# EAGLE library part F-2X08- (library con-headers-jp)
FEMALE HEADER
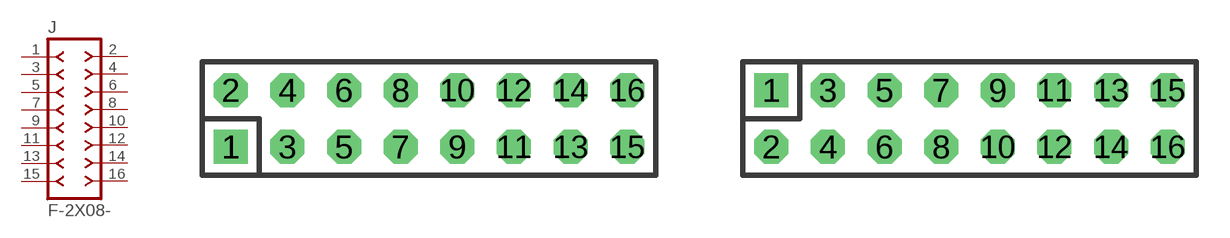
[diagram p37: symbol with the pads of DIL-100-2X08; footprints DIL-100-2X08, DIL-100-2X08_M]

Designator prefix J

## F-2X08-DIL-100  [DIL-100-2X08]
1  1  pas
2  2  pas
3  3  pas
4  4  pas
5  5  pas
6  6  pas
7  7  pas
8  8  pas
9  9  pas
10  10  pas
11  11  pas
12  12  pas
13  13  pas
14  14  pas
15  15  pas
16  16  pas

## F-2X08-DIL-100_M  [DIL-100-2X08_M]
Pads as for DIL-100-2X08

## F-2X08-DIL-2MM  [DIL-2MM-2X08]
Pads as for DIL-100-2X08

## F-2X08-DIL-2MM_M  [DIL-2MM-2X08_M]
Pads as for DIL-100-2X08

## F-2X08-71991  [71991-16]
Pads as for DIL-100-2X08

## F-2X08-79107  [79107-16]
Pads as for DIL-100-2X08

## F-2X08-79107_M  [79107-16_M]
Pads as for DIL-100-2X08

## Footprint DIL-100-2X08 (pad centres in mm)
PIN HEADER - 0.1"
drill 1.016 square: 1 -8.89,-1.27
drill 1.016 octagon: 2 -8.89,1.27; 3 -6.35,-1.27; 4 -6.35,1.27; 5 -3.81,-1.27; 6 -3.81,1.27; 7 -1.27,-1.27; 8 -1.27,1.27; 9 1.27,-1.27; 10 1.27,1.27; 11 3.81,-1.27; 12 3.81,1.27; 13 6.35,-1.27; 14 6.35,1.27; 15 8.89,-1.27; 16 8.89,1.27

## Footprint DIL-100-2X08_M (pad centres in mm)
PIN HEADER - MIRRORED 0.1"
drill 1.016 square: 1 -8.89,1.27
drill 1.016 octagon: 2 -8.89,-1.27; 3 -6.35,1.27; 4 -6.35,-1.27; 5 -3.81,1.27; 6 -3.81,-1.27; 7 -1.27,1.27; 8 -1.27,-1.27; 9 1.27,1.27; 10 1.27,-1.27; 11 3.81,1.27; 12 3.81,-1.27; 13 6.35,1.27; 14 6.35,-1.27; 15 8.89,1.27; 16 8.89,-1.27

## Footprint DIL-2MM-2X08 (pad centres in mm)
PIN HEADER - 2MM"
drill 0.711 square: 1 -7,-1
drill 0.711 round: 2 -7,1; 3 -5,-1; 4 -5,1; 5 -3,-1; 6 -3,1; 7 -1,-1; 8 -1,1; 9 1,-1; 10 1,1; 11 3,-1; 12 3,1; 13 5,-1; 14 5,1; 15 7,-1; 16 7,1

## Footprint DIL-2MM-2X08_M (pad centres in mm)
PIN HEADER - MIRRORED 2MM
drill 0.711 square: 1 -7,1
drill 0.711 round: 2 -7,-1; 3 -5,1; 4 -5,-1; 5 -3,1; 6 -3,-1; 7 -1,1; 8 -1,-1; 9 1,1; 10 1,-1; 11 3,1; 12 3,-1; 13 5,1; 14 5,-1; 15 7,1; 16 7,-1

## Footprint 71991-16 (pad centres in mm)
FCI - Dual Entry Female Pass Through, 0.1" spacing
drill 0.813 square: 1 -8.89,-3.81
drill 0.813 octagon: 2 -8.89,3.81; 3 -6.35,-3.81; 4 -6.35,3.81; 5 -3.81,-3.81; 6 -3.81,3.81; 7 -1.27,-3.81; 8 -1.27,3.81; 9 1.27,-3.81; 10 1.27,3.81; 11 3.81,-3.81; 12 3.81,3.81; 13 6.35,-3.81; 14 6.35,3.81; 15 8.89,-3.81; 16 8.89,3.81
hole 1.422 at -8.89,-1.27
hole 1.422 at -8.89,1.27
hole 1.422 at -6.35,1.27
hole 1.422 at -6.35,-1.27
hole 1.422 at -3.81,1.27
hole 1.422 at -3.81,-1.27
hole 1.422 at -1.27,1.27
hole 1.422 at -1.27,-1.27
hole 1.422 at 1.27,1.27
hole 1.422 at 1.27,-1.27
hole 1.422 at 3.81,1.27
hole 1.422 at 3.81,-1.27
hole 1.422 at 6.35,1.27
hole 1.422 at 6.35,-1.27
hole 1.422 at 8.89,1.27
hole 1.422 at 8.89,-1.27

## Footprint 79107-16 (pad centres in mm)
Molex Board-To-Board Receptacal 2.00mm (.079") Pitch Milli-Grid Header, Vertical, Through-Hole Mates with: 87759, 87762, 87758, 87760
drill 0.711 square: 1 -7,-1
drill 0.711 round: 2 -7,1; 3 -5,-1; 4 -5,1; 5 -3,-1; 6 -3,1; 7 -1,-1; 8 -1,1; 9 1,-1; 10 1,1; 11 3,-1; 12 3,1; 13 5,-1; 14 5,1; 15 7,-1; 16 7,1

## Footprint 79107-16_M (pad centres in mm)
Molex Board-To-Board Receptacal - MIRRORED 2.00mm (.079") Pitch Milli-Grid Header, Vertical, Through-Hole Mates with: 87759, 87762, 87758, 87760
drill 0.711 square: 1 -7,1
drill 0.711 round: 2 -7,-1; 3 -5,1; 4 -5,-1; 5 -3,1; 6 -3,-1; 7 -1,1; 8 -1,-1; 9 1,1; 10 1,-1; 11 3,1; 12 3,-1; 13 5,1; 14 5,-1; 15 7,1; 16 7,-1